# Altium schematic symbol library RE1C002UNTCL.SchLib: 2 symbols
Pins are listed as number, name and electrical type; pins without a type are passive.

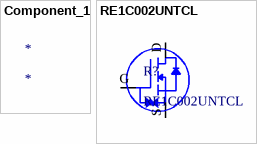
[diagram p0: symbols Component_1 to RE1C002UNTCL]

## Component_1
designator *

## RE1C002UNTCL
designator R?
No Description Available; Mfr_Name: ROHM Semiconductor; Copyright: Copyright (C) 2024 Ultra Librarian. All rights reserved.; Manufacturer_Part_Number: RE1C002UNTCL; RefDes: RefDes; Type: DEV
footprint DIO_RB558WMF_ROM
footprint DIO_RB558WMF_ROM
pins: D, G, S